# EAGLE library part AD-ADT7410 (library FaBo-Environment)
ANALOGDEVICES ADT7410(Temperature)
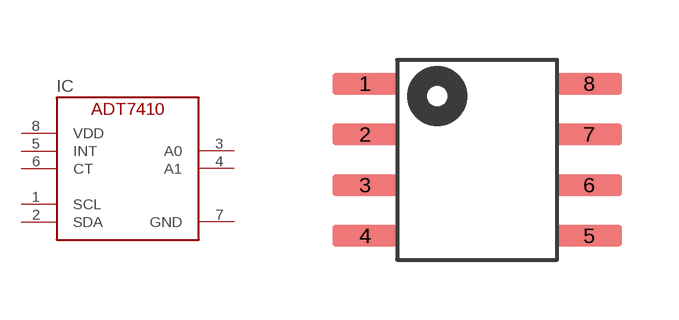
[diagram p1: symbol with the pads of ANALOGDEVICES-ADT7410; footprint ANALOGDEVICES-ADT7410]

Designator prefix IC

## AD-ADT7410  [ANALOGDEVICES-ADT7410]
1  SCL
2  SDA
3  A0
4  A1
5  INT
6  CT
7  GND
8  VDD

## Footprint ANALOGDEVICES-ADT7410 (pad centres in mm)
smd 1.65 x 0.55: 1 -2.8,1.905; 2 -2.8,0.635; 3 -2.8,-0.635; 4 -2.8,-1.905; 5 2.8,-1.905; 6 2.8,-0.635; 7 2.8,0.635; 8 2.8,1.905